# Altium footprint library eBox_relay.PcbLib: 16 footprints
Each footprint in its own frame and in the unit in brackets; x right, y up, seen from the top. Pads: shape width x height; smd on the part's side, far side on the other; paste and mask are expansions set on the pad; w line width, h text height; cw(c..) or ccw(c..) is an arc to the next point about the centre after c.
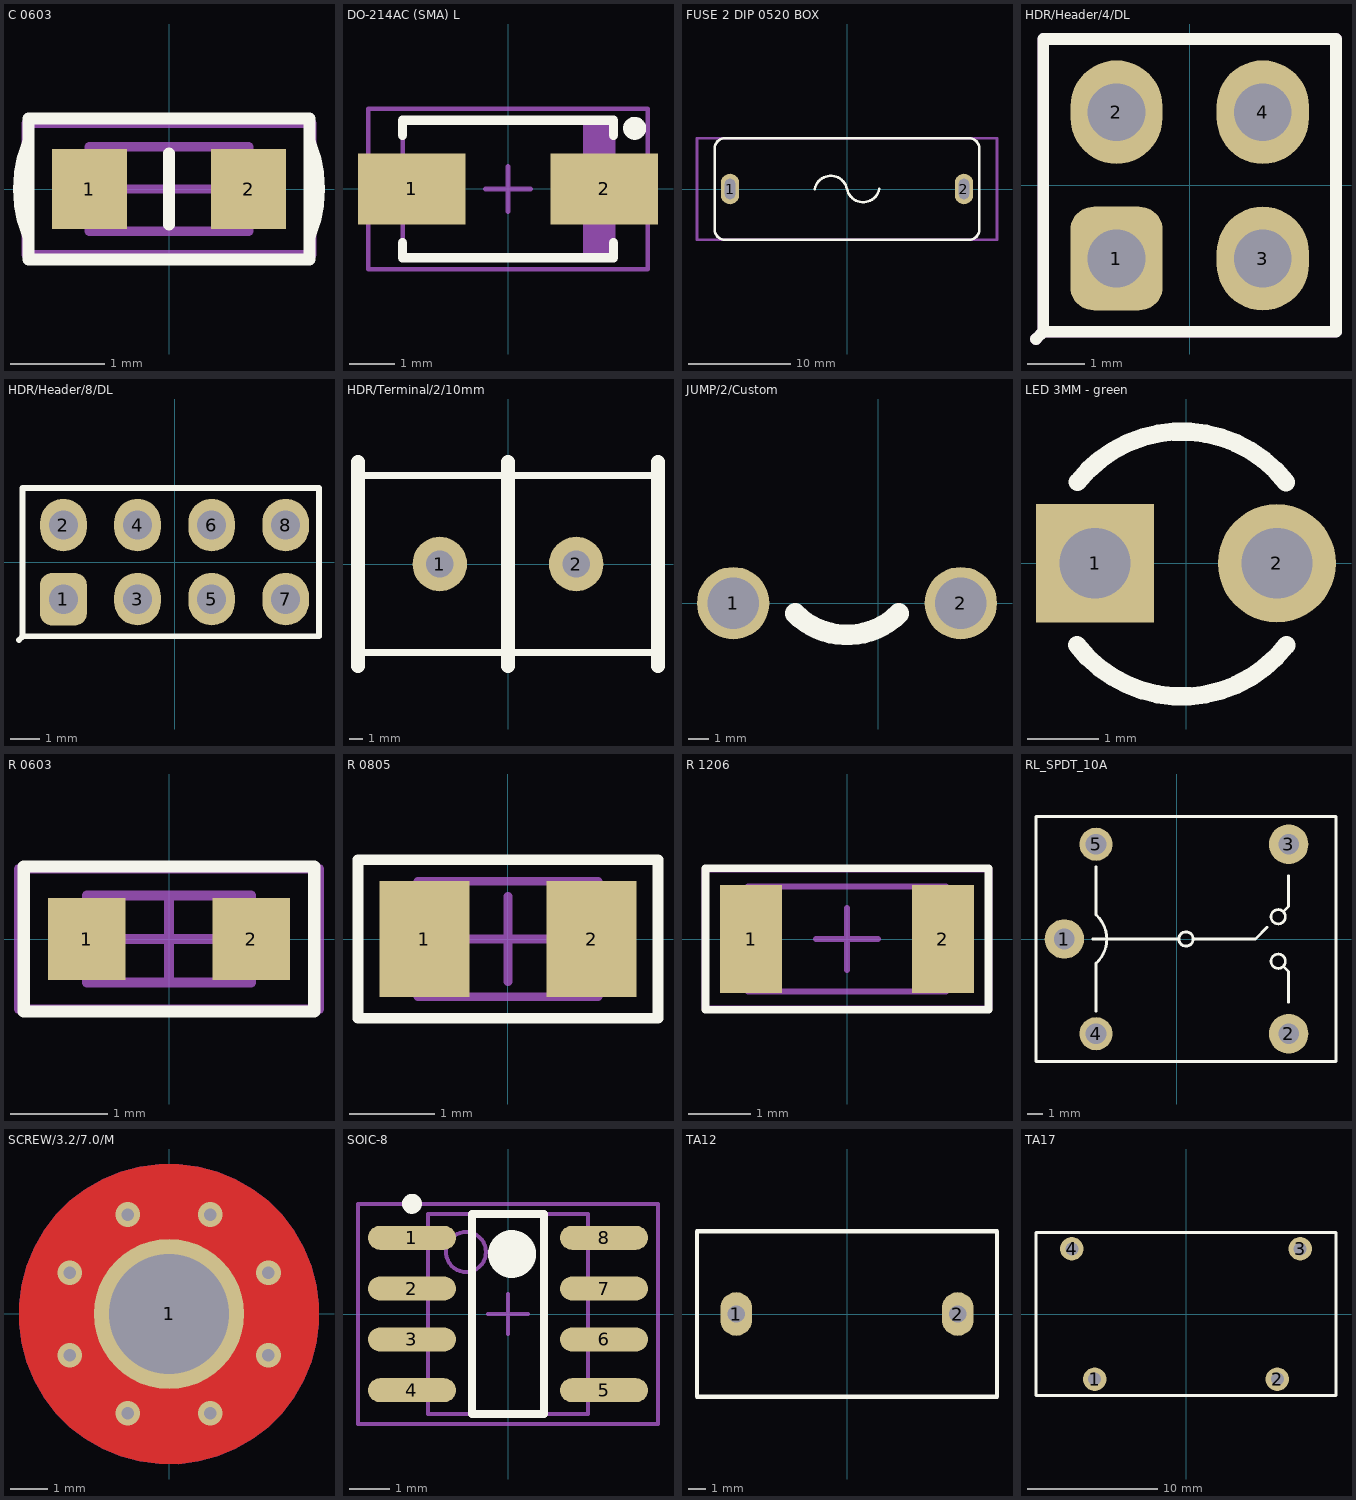
[diagram p0: the footprints below, top view; thin cyan lines are the x and y axes]

## C 0603 [mm]
pads (2):
  rect 0.8x0.85 smd: 1(-0.85,0) 2(0.85,0)
Top Overlay:
  lines w0.127: -1.503,-0.501 cw(c-0.25,0) -1.503,0.501 ; 0,-0.381 0,0.381 ; 1.503,-0.501 ccw(c0.25,0) 1.503,0.501 ; -1.5,-0.75 -1.5,0.75 1.5,0.75 1.5,-0.75 -1.5,-0.75
Mechanical 13:
  lines w0.1: -0.85,-0.45 -0.85,0.45 0.85,0.45 0.85,-0.45 -0.85,-0.45
Mechanical 15:
  lines w0.1: -0.45,0 0.45,0 ; 0,-0.45 0,0.45 ; -1.525,-0.7 -1.525,0.7 1.525,0.7 1.525,-0.7 -1.525,-0.7
3D body "User Library-Chip Capacitor2.step": height 0.81, standoff 0.01, extent -0.8,-0.432 0.8,0.428

## DO-214AC (SMA) L [mm]
pads (2):
  rect 2.35x1.55 smd: 1(-2.1,0) 2(2.1,0)
Top Overlay:
  circle w0.25: c2.765,1.325 r0.125
  lines w0.2: -2.3,-1.175 -2.3,-1.5 2.3,-1.5 2.3,-1.175 ; -2.3,1.175 -2.3,1.5 2.3,1.5 2.3,1.175
Mechanical 13:
  rectangle: 1.637,-1.45 2.256,1.45
  lines w0.1: -2.3,-1.45 -2.3,1.45 2.3,1.45 2.3,-1.45 -2.3,-1.45
Mechanical 15:
  lines w0.1: -0.5,0 0.5,0 ; 0,-0.5 0,0.5 ; -3.05,-1.75 -3.05,1.75 3.05,1.75 3.05,-1.75 -3.05,-1.75
3D body "User Library-DO-214AC SMA.step": height 2.4, standoff 0, extent -2.6,-1.295 2.6,1.305

## FUSE 2 DIP 0520 BOX [mm]
pads (2):
  oval 1.8x3 hole 1 slot 2 at 90 deg: 1(-11.5,0) 2(11.5,0)
Top Overlay:
  lines w0.254: -3.175,0 cw(c-1.587,-0.318) 0,0 ccw(c1.587,0.318) 3.175,0 ; -13,-4 ccw(c-12,-4) -12,-5 12,-5 ccw(c12,-4) 13,-4 13,4 ccw(c12,4) 12,5 -12,5 ccw(c-12,4) -13,4 -13,-4
Mechanical 1:
  lines w0.254: -14.75,-5 14.75,-5 14.75,5 -14.75,5 -14.75,-5
3D body "User Library-Fuse_Holder_FH-101-1.STEP": height 10.75, standoff -4.25, extent -12.15,-4.8 12.15,4.8

## HDR/Header/4/DL [mm]
pads (4):
  rrect50% 1.6x1.8 hole 1: 1(-1.27,-1.27)
  oval 1.6x1.8 hole 1: 2(-1.27,1.27) 3(1.27,-1.27) 4(1.27,1.27)
Top Overlay:
  lines w0.203: -2.667,-2.667 -2.54,-2.54 ; -2.54,-2.54 -2.54,2.54 2.54,2.54 2.54,-2.54 -2.54,-2.54
Mechanical 1:
  lines w0.203: -2.667,-2.667 -2.54,-2.54 ; -2.54,-2.54 -2.54,2.54 2.54,2.54 2.54,-2.54 -2.54,-2.54
3D body "Samtec Header 2pin 2.54mm.STEP": height 8.89, standoff -2.03, extent -2.54,-2.54 2.54,0
3D body "Samtec Header 2pin 2.54mm.STEP": height 8.89, standoff -2.03, extent -2.54,0 2.54,2.54

## HDR/Header/8/DL [mm]
pads (8):
  rrect50% 1.6x1.8 hole 1: 1(-3.81,-1.27)
  oval 1.6x1.8 hole 1: 2(-3.81,1.27) 3(-1.27,-1.27) 4(-1.27,1.27) 5(1.27,-1.27) 6(1.27,1.27) 7(3.81,-1.27) 8(3.81,1.27)
Top Overlay:
  lines w0.203: -5.334,-2.667 -5.207,-2.54 ; -5.207,-2.54 4.953,-2.54 4.953,2.54 -5.207,2.54 -5.207,-2.54
3D body "Samtec Header 4pin 2.54mm.STEP": height 8.89, standoff -2.03, extent -5.08,-2.54 5.08,0
3D body "Samtec Header 4pin 2.54mm.STEP": height 8.89, standoff -2.03, extent -5.08,0 5.08,2.54

## HDR/Terminal/2/10mm [mm]
pads (2):
  round 4 hole 2: 1(-5,0) 2(5,0)
Top Overlay:
  lines w0.5: -11,-6.5 11,-6.5 ; -11,6.5 11,6.5
  lines w1: -11,-7.5 -11,7.5 ; 0,-7.5 0,7.5 ; 11,-7.5 11,7.5
3D body "User Library-Terminal_Block.step": height 18.14, standoff -5.36, extent -11,-7.75 11,7.75

## JUMP/2/Custom [mm]
pads (2):
  round 3.5 hole 2.5: 1(-7,0) 2(4,0)
Top Overlay:
  lines w1: -4,-0.5 ccw(c-1.5,2) 1,-0.5

## LED 3MM - green [mil]
pads (2):
  rect 65x65 hole 39: 1(-50,0)
  round 65 hole 39: 2(50,0)
Top Overlay:
  lines w10: -60.03,-45.02 ccw(c-2.37,-0.43) 55.19,-45.15 ; -59.61,44.69 cw(c-2.37,-0.43) 55,44.52
3D body "User Library-LED D3mm GREEN.STEP": height 207.04, standoff -107.93, extent -65.51,-64.9 64.41,64.57

## R 0603 [mm]
pads (2):
  rect 0.8x0.85 smd: 1(-0.85,0) 2(0.85,0)
Top Overlay:
  lines w0.127: -1.5,-0.75 -1.5,0.75 1.5,0.75 1.5,-0.75 -1.5,-0.75
Mechanical 13:
  lines w0.1: -0.85,-0.45 -0.85,0.45 0.85,0.45 0.85,-0.45 -0.85,-0.45
Mechanical 15:
  lines w0.1: -0.45,0 0.45,0 ; 0,-0.45 0,0.45 ; -1.55,-0.725 -1.55,0.725 1.55,0.725 1.55,-0.725 -1.55,-0.725
3D body "User Library-Chip Resistor2.step": height 0.5, standoff 0, extent -0.8,-0.4 0.8,0.4

## R 0805 [mm]
pads (2):
  rect 1.05x1.35 smd: 1(-0.975,0) 2(0.975,0)
Top Overlay:
  lines w0.127: -1.75,-0.925 -1.75,0.925 1.75,0.925 1.75,-0.925 -1.75,-0.925
Mechanical 13:
  lines w0.1: -1.05,-0.675 1.05,-0.675 1.05,0.675 -1.05,0.675 -1.05,-0.675
Mechanical 15:
  lines w0.1: -0.5,0 0.5,0 ; 0,-0.5 0,0.5 ; -1.75,-0.925 1.75,-0.925 1.75,0.925 -1.75,0.925 -1.75,-0.925
3D body "RESC2012X50N.step": height 0.5, standoff 0, extent -1,-0.61 1,0.59

## R 1206 [mm]
pads (2):
  rect 1x1.75 smd: 1(-1.55,0) 2(1.55,0)
Top Overlay:
  lines w0.127: -2.286,-1.143 -2.286,1.143 2.286,1.143 2.286,-1.143 -2.286,-1.143
Mechanical 13:
  lines w0.1: -1.6,-0.85 1.6,-0.85 1.6,0.85 -1.6,0.85 -1.6,-0.85
Mechanical 15:
  lines w0.1: -0.5,0 0.5,0 ; 0,-0.5 0,0.5 ; -2.3,-1.125 2.3,-1.125 2.3,1.125 -2.3,1.125 -2.3,-1.125
3D body "User Library-Chip Resistor2.step": height 0.6, standoff 0, extent -1.6,-0.8 1.6,0.8

## RL_SPDT_10A [mm]
pads (5):
  round 2.5 hole 1.3: 1(-7.1,0) 2(7.1,-6) 3(7.1,6)
  round 2.1 hole 1.3: 4(-5.1,-6) 5(-5.1,6)
Top Overlay:
  circle w0.178: c0.6,0 r0.452
  circle w0.178: c6.44,1.409 r0.452
  circle w0.178: c6.44,-1.409 r0.452
  lines w0.178: -5.3,0 0.168,0 ; -5.1,-4.57 -5.1,-1.523 ; -5.1,1.523 -5.1,4.57 ; -5.078,-1.523 ccw(c-6.5,0) -5.067,1.513 ; 1.052,0 5,0 5.75,0.75 ; 6.765,-1.735 7.1,-2.07 7.1,-4 ; 6.765,1.735 7.1,2.07 7.1,4 ; -8.9,-7.75 10.1,-7.75 10.1,7.75 -8.9,7.75 -8.9,-7.75
3D body "User Library-Relay SPDT.step": height 15.4, standoff -4, extent -8.9,-7.75 10.1,7.75

## SCREW/3.2/7.0/M [mm]
pads (1):
  round 4 / inner round 7 / far side round 7 hole 3.2: 1(0,0)
via 1.1,-2.65 diameter 0.66 hole 0.33
via -2.65,-1.1 diameter 0.66 hole 0.33
via -1.1,2.65 diameter 0.66 hole 0.33
via 2.65,1.1 diameter 0.66 hole 0.33
via -2.65,1.1 diameter 0.66 hole 0.33
via 1.1,2.65 diameter 0.66 hole 0.33
via 2.65,-1.1 diameter 0.66 hole 0.33
via -1.1,-2.65 diameter 0.66 hole 0.33
Top Layer:
  region: -2.25,0.1 -2.225,0.325 -2.175,0.575 -2.1,0.8 -2.025,0.975 -1.95,1.125 -1.875,1.25 -1.775,1.375 -1.675,1.5 -2.6,2.425 -2.775,2.225 -2.925,2.025 -3.05,1.825 -3.175,1.6 -3.275,1.375 -3.35,1.175 -3.425,0.95 -3.475,0.725 -3.5,0.6 -3.525,0.45 -3.55,0.1
  region: -2.25,-0.1 -2.225,-0.325 -2.175,-0.575 -2.1,-0.8 -2.025,-0.975 -1.95,-1.125 -1.875,-1.25 -1.775,-1.375 -1.675,-1.5 -2.6,-2.425 -2.775,-2.225 -2.925,-2.025 -3.05,-1.825 -3.175,-1.6 -3.275,-1.375 -3.35,-1.175 -3.425,-0.95 -3.475,-0.725 -3.5,-0.6 -3.525,-0.45 -3.55,-0.1
  region: -0.1,2.25 -0.325,2.225 -0.575,2.175 -0.8,2.1 -0.975,2.025 -1.125,1.95 -1.25,1.875 -1.375,1.775 -1.5,1.675 -2.425,2.6 -2.225,2.775 -2.025,2.925 -1.825,3.05 -1.6,3.175 -1.375,3.275 -1.175,3.35 -0.95,3.425 -0.725,3.475 -0.6,3.5 -0.45,3.525 -0.1,3.55
  region: 0.1,2.25 0.325,2.225 0.575,2.175 0.8,2.1 0.975,2.025 1.125,1.95 1.25,1.875 1.375,1.775 1.5,1.675 2.425,2.6 2.225,2.775 2.025,2.925 1.825,3.05 1.6,3.175 1.375,3.275 1.175,3.35 0.95,3.425 0.725,3.475 0.6,3.5 0.45,3.525 0.1,3.55
  region: 2.25,-0.1 2.225,-0.325 2.175,-0.575 2.1,-0.8 2.025,-0.975 1.95,-1.125 1.875,-1.25 1.775,-1.375 1.675,-1.5 2.6,-2.425 2.775,-2.225 2.925,-2.025 3.05,-1.825 3.175,-1.6 3.275,-1.375 3.35,-1.175 3.425,-0.95 3.475,-0.725 3.5,-0.6 3.525,-0.45 3.55,-0.1
  region: 2.25,0.1 2.225,0.325 2.175,0.575 2.1,0.8 2.025,0.975 1.95,1.125 1.875,1.25 1.775,1.375 1.675,1.5 2.6,2.425 2.775,2.225 2.925,2.025 3.05,1.825 3.175,1.6 3.275,1.375 3.35,1.175 3.425,0.95 3.475,0.725 3.5,0.6 3.525,0.45 3.55,0.1
  region: 0.1,-2.25 0.325,-2.225 0.575,-2.175 0.8,-2.1 0.975,-2.025 1.125,-1.95 1.25,-1.875 1.375,-1.775 1.5,-1.675 2.425,-2.6 2.225,-2.775 2.025,-2.925 1.825,-3.05 1.6,-3.175 1.375,-3.275 1.175,-3.35 0.95,-3.425 0.725,-3.475 0.6,-3.5 0.45,-3.525 0.1,-3.55
  region: -0.1,-2.25 -0.325,-2.225 -0.575,-2.175 -0.8,-2.1 -0.975,-2.025 -1.125,-1.95 -1.25,-1.875 -1.375,-1.775 -1.5,-1.675 -2.425,-2.6 -2.225,-2.775 -2.025,-2.925 -1.825,-3.05 -1.6,-3.175 -1.375,-3.275 -1.175,-3.35 -0.95,-3.425 -0.725,-3.475 -0.6,-3.5 -0.45,-3.525 -0.1,-3.55
  pour cut-out: -4,0 -4,0.262 -3.932,0.782 -3.796,1.289 -3.595,1.773 -3.333,2.227 -3.014,2.643 -2.643,3.014 -2.227,3.333 -1.773,3.595 -1.289,3.796 -0.782,3.931 -0.262,4 0,4 0.262,4 0.782,3.932 1.288,3.796 1.773,3.595 2.227,3.333 2.643,3.014 3.014,2.643 3.333,2.227 3.595,1.773 3.796,1.288 3.932,0.782 4,0.262 4,0 4,-0.262 3.932,-0.782 3.796,-1.289 3.595,-1.773 3.333,-2.227 3.014,-2.643 2.643,-3.014 2.227,-3.333 1.773,-3.595 1.289,-3.796 0.782,-3.932 0.262,-4 0,-4 -0.262,-4 -0.782,-3.932 -1.288,-3.796 -1.773,-3.595 -2.227,-3.333 -2.643,-3.014 -3.014,-2.643 -3.333,-2.227 -3.595,-1.773 -3.796,-1.289 -3.932,-0.782 -4,-0.262
Bottom Layer:
  pour cut-out: -4,0 -4,0.262 -3.932,0.782 -3.796,1.289 -3.595,1.773 -3.333,2.227 -3.014,2.643 -2.643,3.014 -2.227,3.333 -1.773,3.595 -1.289,3.796 -0.782,3.931 -0.262,4 0,4 0.262,4 0.782,3.932 1.288,3.796 1.773,3.595 2.227,3.333 2.643,3.014 3.014,2.643 3.333,2.227 3.595,1.773 3.796,1.288 3.932,0.782 4,0.262 4,0 4,-0.262 3.932,-0.782 3.796,-1.289 3.595,-1.773 3.333,-2.227 3.014,-2.643 2.643,-3.014 2.227,-3.333 1.773,-3.595 1.289,-3.796 0.782,-3.932 0.262,-4 0,-4 -0.262,-4 -0.782,-3.932 -1.288,-3.796 -1.773,-3.595 -2.227,-3.333 -2.643,-3.014 -3.014,-2.643 -3.333,-2.227 -3.595,-1.773 -3.796,-1.289 -3.932,-0.782 -4,-0.262
Top Solder:
  region: 3.6,-0.017 3.6,-0.252 3.539,-0.717 3.417,-1.171 3.237,-1.605 3.003,-2.012 2.717,-2.384 2.385,-2.717 2.012,-3.003 1.605,-3.237 1.171,-3.417 0.717,-3.539 0.252,-3.6 0.017,-3.6 -0.22,-3.6 -0.69,-3.538 -1.148,-3.416 -1.586,-3.234 -1.997,-2.997 -2.373,-2.709 -2.708,-2.374 -2.997,-1.997 -3.234,-1.587 -3.415,-1.149 -3.538,-0.691 -3.6,-0.221 -3.6,0.016 -3.6,0.252 -3.538,0.719 -3.416,1.174 -3.235,1.609 -2.999,2.017 -2.711,2.39 -2.377,2.722 -2.003,3.008 -1.594,3.243 -1.158,3.421 -0.702,3.542 -0.235,3.601 0.001,3.6 0.237,3.599 0.706,3.535 1.162,3.411 1.598,3.228 2.006,2.991 2.38,2.702 2.714,2.367 3.001,1.991 3.236,1.582 3.417,1.145 3.539,0.688 3.6,0.219

## SOIC-8 [mm]
pads (8):
  oval 2.2x0.6 smd: 1(-2.4,1.905) 2(-2.4,0.635) 3(-2.4,-0.635) 4(-2.4,-1.905) 5(2.4,-1.905) 6(2.4,-0.635) 7(2.4,0.635) 8(2.4,1.905)
Top Overlay:
  circle w0.6: c0.1,1.5 r0.3
  circle w0.25: c-2.4,2.755 r0.125
  lines w0.2: -0.9,-2.5 0.9,-2.5 0.9,2.5 -0.9,2.5 -0.9,-2.5
Mechanical 13:
  circle w0.1: c-1.05,1.55 r0.5
  lines w0.1: -2,-2.5 2,-2.5 2,2.5 -2,2.5 -2,-2.5
Mechanical 15:
  lines w0.1: -0.5,0 0.5,0 ; 0,-0.5 0,0.5 ; -3.75,-2.75 3.75,-2.75 3.75,2.75 -3.75,2.75 -3.75,-2.75
3D body "User Library-SOIC-8-1.step": height 1.75, standoff 0, extent -3,-2.487 3,2.413

## TA12 [mm]
pads (2):
  oval 1.8x2.5 hole 1: 1(-6.35,0) 2(6.35,0)
Top Overlay:
  lines w0.254: -8.6,-4.75 8.6,-4.75 8.6,4.75 -8.6,4.75 -8.6,-4.75
3D body "TA12.step": height 20.4, standoff 0, extent -8.6,-4.75 8.6,4.75

## TA17 [mm]
pads (4):
  round 1.8 hole 1: 1(-7,-5) 2(7,-5) 3(8.75,5) 4(-8.75,5)
Top Overlay:
  lines w0.254: -11.5,-6.25 11.5,-6.25 11.5,6.25 -11.5,6.25 -11.5,-6.25
3D body "TA17.step": height 26, standoff 0, extent -11.5,-6.25 11.5,6.25